# EAGLE library part LRTB-G6TG (library gghc)
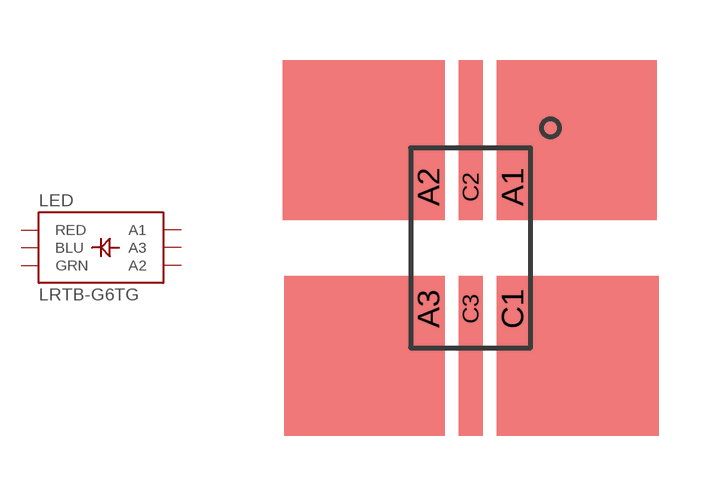
[diagram p3: symbol with the pads of LRTB-G6TG; footprint LRTB-G6TG]

Designator prefix LED

## LRTB-G6TG  [LRTB-G6TG]
A1  A1
A2  A2
A3  A3
C1  RED
C2  GRN
C3  BLU

## Footprint LRTB-G6TG (pad centres in mm)
smd 0.8 x 1.65: A1 1.05,1.525; A2 -1.05,1.525; A3 -1.05,-1.525; C1 1.05,-1.525
smd 0.6 x 1.65: C2 0,1.525; C3 0,-1.525